# EAGLE library part BQ25504 (library JAM)
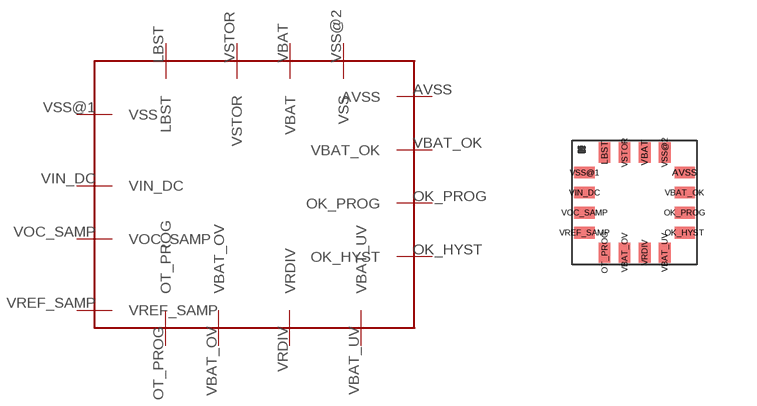
[diagram p0: symbol with the pads of BQ25504; footprint BQ25504]

Designator prefix -

## BQ25504  [BQ25504]
AVSS  AVSS
LBST  LBST
OK_HYST  OK_HYST
OK_PROG  OK_PROG
OT_PROG  OT_PROG
VBAT  VBAT
VBAT_OK  VBAT_OK
VBAT_OV  VBAT_OV
VBAT_UV  VBAT_UV
VIN_DC  VIN_DC
VOC_SAMP  VOC_SAMP
VRDIV  VRDIV
VREF_SAMP  VREF_SAMP
VSS@1  VSS
VSS@2  VSS
VSTOR  VSTOR

## Footprint BQ25504 (pad centres in mm)
smd 0.5 x 0.3: AVSS 1.25,0.75; OK_HYST 1.25,-0.75; OK_PROG 1.25,-0.25; VBAT_OK 1.25,0.25; VIN_DC -1.25,0.25; VOC_SAMP -1.25,-0.25; VREF_SAMP -1.25,-0.75; VSS@1 -1.25,0.75
smd 0.3 x 0.5: LBST -0.75,1.25; OT_PROG -0.75,-1.25; VBAT 0.25,1.25; VBAT_OV -0.25,-1.25; VBAT_UV 0.75,-1.25; VRDIV 0.25,-1.25; VSS@2 0.75,1.25; VSTOR -0.25,1.25